# Altium schematic symbol library FUSE 04450001N.SchLib: 1 symbol
Pins are listed as number, name and electrical type; pins without a type are passive.

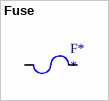
[diagram p0: symbol Fuse]

## Fuse
designator F*
Fuse holder 04450001N
footprint FUSE
pins: 1, 2